# Altium schematic symbol library Electromechanicals.SchLib: 5 symbols
Pins are listed as number, name and electrical type; pins without a type are passive.

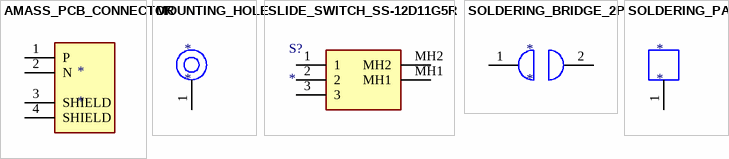
[diagram p0: symbols AMASS_PCB_CONNECTOR to SOLDERING_PAD]

## AMASS_PCB_CONNECTOR
designator *
GENERIC AMASS PCB CONNECTOR; MF: Amass
footprint AMASS_XT60PW-M
footprint AMASS_XT30PW-M
footprint AMASS_XT30PW-F
pins: 1 P, 2 N, 3 SHIELD, 4 SHIELD

## MOUNTING_HOLE
designator *
GENERIC MOUNTING HOLE
footprint MOUNTING_HOLE_M3
footprint MOUNTING_HOLE_M2
pins: 1

## SLIDE_SWITCH_SS-12D11G5R
designator S?
SLIDE SWITCH SS-12D11G5R; Manufacturer_Name: XKB Connectivity; Datasheet Link: http://www.helloxkb.com/public/images/pdf/SS-12D11XXX.pdf; Height: 6.9mm; Manufacturer_Part_Number: SS-12D11G5R
footprint SLIDE_SWITCH_SS-12D11G5R
pins: 1, 2, 3, MH1, MH2

## SOLDERING_BRIDGE_2P
designator *
GENERIC SOLDERING BRIDGE 2P
pins: 1 3, 2 4

## SOLDERING_PAD
designator *
GENERIC SOLDERING PAD
footprint SOLDERING_PAD_5X3.5
pins: 1